# EAGLE library part USB (library PowerTechLIB2)
PowerTech USB USBs used by PowerTech Keywords microusb usb connector
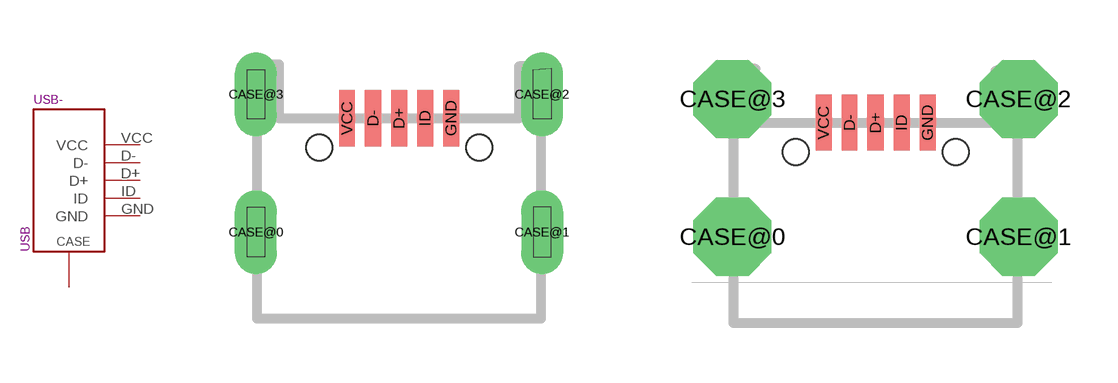
[diagram p8: symbol with the pads of USB; footprints USB, USB-MICRO-NOROUT]

Designator prefix USB-

## USB-MICRO  [USB]
CASE@0  CASE
CASE@1  CASE
CASE@2  CASE
CASE@3  CASE
D+  D+
D-  D-
GND  GND
ID  ID
VCC  VCC

## USB-  [USB-MICRO-NOROUT]
Pads as for USB

## USB  [MICROUSB_MICRO-USB]
1  VCC
2  D-
3  D+
4  ID
5  GND
GND1  CASE
GND2  CASE

## Footprint USB (pad centres in mm)
drill 0.45 pad 1.05 long: CASE@0 -3.575,1.15; CASE@1 3.575,1.15; CASE@2 3.575,4.6; CASE@3 -3.575,4.6
smd 0.4 x 1.4: D+ 0,4; D- -0.65,4; GND 1.3,4; ID 0.65,4; VCC -1.3,4
hole 0.65 at -2,3.274
hole 0.65 at 2,3.274

## Footprint USB-MICRO-NOROUT (pad centres in mm)
drill 1.3 pad 1.93 octagon: CASE@0 -3.575,1.15; CASE@1 3.575,1.15; CASE@2 3.575,4.6; CASE@3 -3.575,4.6
smd 0.4 x 1.4: D+ 0,4; D- -0.65,4; GND 1.3,4; ID 0.65,4; VCC -1.3,4
hole 0.65 at -2,3.274
hole 0.65 at 2,3.274

## Footprint MICROUSB_MICRO-USB (pad centres in mm)
smd 0.4 x 1.75: 1 -1.3,4.525; 2 -0.65,4.525; 3 0,4.525; 4 0.65,4.525; 5 1.3,4.525
drill 1.2 pad 2.54 octagon: GND1 -3.725,1.7; GND2 3.725,1.7
hole 1.05 at -2.425,4.73
hole 1.05 at 2.425,4.73